# Altium schematic symbol library Components - 22.04.20 - 05.05.SchLib: 1 symbol
Pins are listed as number, name and electrical type; pins without a type are passive.

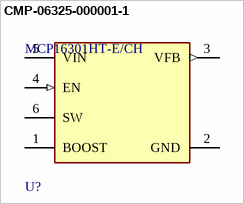
[diagram p0: symbol CMP-06325-000001-1]

## CMP-06325-000001-1
designator U?, comment MCP16301HT-E/CH
IC REG BUCK ADJ 600MA SOT23-6; Manufacturer: Microchip; Max Duty Cycle: 95%; Standoff Height: 0mm; Number Of Outputs: 1; Automotive Grade: Grade 1; Max Supply Voltage: 36V; Max Junction Temp: +125°C; Nominal Supply Current: 2mA; Output Voltage: 2-15V; Switching Frequency: 500kHz; Output Type: AdjustableProgrammable; Min Supply Voltage: 4.7V; ComponentLink2URL: http://ww1.microchip.com/downloads/en/DeviceDoc/20005004D.pdf; Footprint Url: http://ww1.microchip.com/downloads/en/DeviceDoc/6L_SOT-23_CH_CHY_C04-028C_CH.pdf; Automotive: Yes; Ambient Temperature Range Low: -40°C; Digikey Description: IC REG BUCK ADJ 600MA SOT23-6; Device Class L3: Voltage Regulators - Switching; Height: 1.45mm; Package: C04-028C; Ambient Temperature Range High: +125°C; ComponentLink2Description: Datasheet; Switching Topology: Buck; Device Class L1: Integrated Circuits (ICs); Temperature Range Low: -40°C; Ipc Land Pattern Name: SOT95P280X118-6; Device Class L2: Power Management ICs; Category: IC; Manufacturer Part Number: MCP16301HT-E/CH; Temperature Range High: +125°C; Lead Free: Yes; Mouser Description: Conv DC-DC 4V to 30V Step Down Single-Out 2V to 15V 0.6A Automotive 6-Pin SOT-23 T/R; Temperature: -40°C to +125°C; Output Current: 600mA; RoHS: TRUE; Octopart: https://octopart.com/mcp16301ht-e%2Fch-microchip-30853223
footprint FP-C04-028C-MFG
footprint FP-C04-028C-IPC_B
footprint FP-C04-028C-IPC_C
footprint FP-C04-028C-IPC_A
pins: 1 BOOST, 2 GND (power), 3 VFB (out), 4 EN (in), 5 VIN (power), 6 SW (power)